# Altium footprint library D-Sub-9-pin.PcbLib: 1 footprints
Each footprint in its own frame and in the unit in brackets; x right, y up, seen from the top. Pads: shape width x height; smd on the part's side, far side on the other; paste and mask are expansions set on the pad; w line width, h text height; cw(c..) or ccw(c..) is an arc to the next point about the centre after c.
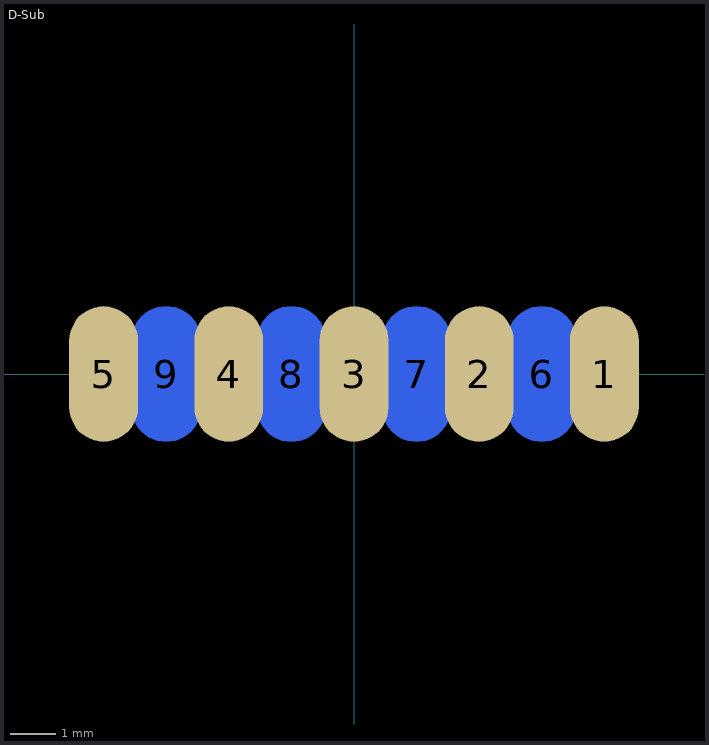
[diagram p0: the footprint, top view; thin cyan lines are the x and y axes]

## D-Sub [mm] "D-Sub 9-Pin"
pads (9):
  oval 1.524x3 smd: 1(5.54,0) 2(2.77,0) 3(0,0) 4(-2.77,0) 5(-5.54,0)
  oval 1.524x3 smd far side: 6(4.155,0) 7(1.385,0) 8(-1.385,0) 9(-4.155,0)